# EAGLE library part IC_LT1762 (library psas)
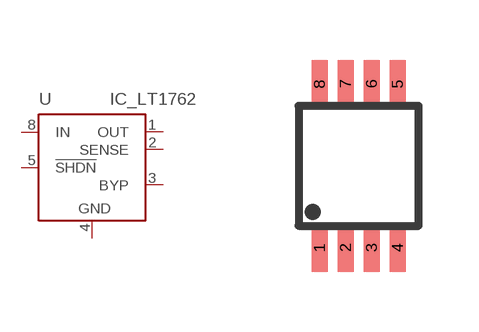
[diagram p11: symbol with the pads of MSOP8; footprint MSOP8]

Designator prefix -

## IC_LT1762EMS8  [MSOP8]
1  OUT  out
2  SENSE  in
3  BYP  in
4  GND  pwr
5  !SHDN  in
8  IN  in

## Footprint MSOP8 (pad centres in mm)
MSOP8
smd 0.4 x 1.2: 1 -0.975,-2.05; 2 -0.325,-2.05; 3 0.325,-2.05; 4 0.975,-2.05; 5 0.975,2.05; 6 0.325,2.05; 7 -0.325,2.05; 8 -0.975,2.05